# EAGLE library part SJ-3571N (library SJ-3571N)
Check availability <https://pricing.snapeda.com/parts/SJ-3571N/Same%20Sky/view-part?ref=eda>
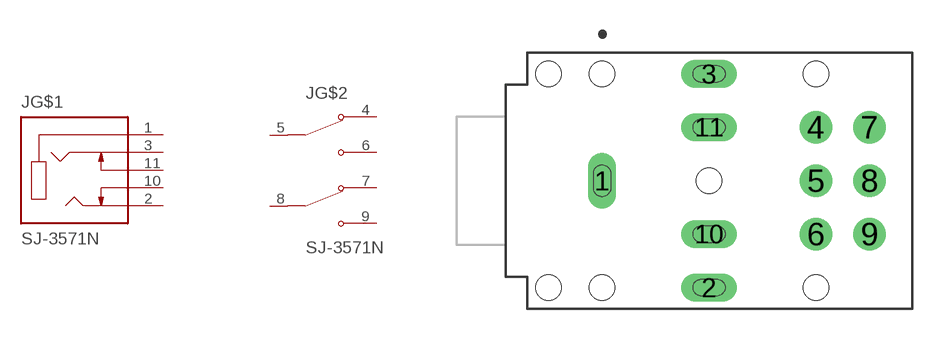
[diagram p0: symbol with the pads of CUI_SJ-3571N; footprint CUI_SJ-3571N]

Designator prefix J; gates G$1=SJ-3571N_SECTION1 G$2=SJ-3571N_SECTION2

## SJ-3571N (Availability: In Stock; Check_prices: https://www.snapeda.com/parts/SJ-3571N/Same+Sky/view-part/?ref=eda; Description: 3.5 mm Right-Angle, SPDT Switch, Stereo Audio Jack Connector; MF: Same Sky; MP: SJ-3571N; Package: None; Price: None; SnapEDA_Link: https://www.snapeda.com/parts/SJ-3571N/Same+Sky/view-part/?ref=snap)  [CUI_SJ-3571N]
1  G$1:1  pas
2  G$1:2  pas
3  G$1:3  pas
4  G$2:NC1  pas
5  G$2:COM1  pas
6  G$2:NO1  pas
7  G$2:NC2  pas
8  G$2:COM2  pas
9  G$2:NO2  pas
10  G$1:10  pas
11  G$1:11  pas

## Footprint CUI_SJ-3571N (pad centres in mm)
drill 0.8 long: 1 0,0; 2 5,-5; 3 5,5; 10 5,-2.5; 11 5,2.5
drill 1: 4 10,2.5; 5 10,0; 6 10,-2.5; 7 12.5,2.5; 8 12.5,0; 9 12.5,-2.5
hole 1.2 at 10,5
hole 1.2 at 10,-5
hole 1.2 at 5,0
hole 1.2 at 0,5
hole 1.2 at -2.5,5
hole 1.2 at 0,-5
hole 1.2 at -2.5,-5